# Altium schematic symbol library Cap_Panasonic_10TPE220ML_eec.SchLib: 1 symbol
Pins are listed as number, name and electrical type; pins without a type are passive.

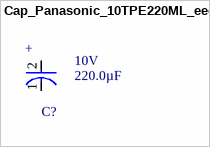
[diagram p0: symbol Cap_Panasonic_10TPE220ML_eec]

## Cap_Panasonic_10TPE220ML_eec
designator C?  Capacitance: 220.0µF  Voltage: 10V
CAP TANT POLY 220UF 10V 2917; Part Number: 10TPE220ML; Manufacturer: Panasonic; Value: 220.0µF; helpURL: https://upverter.com/upn/revision/a9d837e84b766fb4/; ComponentLink2Description: Datasheet; Temperature: -55°C to +105°C; Package: 2917; Supplier 2: Mouser; Price: 1.27880192454; Supplier 1: Digi-Key; ComponentLink1URL: https://upverter.com/upn/revision/a9d837e84b766fb4/; Supplier Part Number 2: 667-10TPE220ML; Supplier Part Number 1: P16451CT-ND; ComponentLink1Description: Upverter; ComponentLink2URL: https://industrial.panasonic.com/cdbs/www-data/pdf/AAA8000/AAA8000C36.pdf; RoHS: TRUE; Mouser Part Number: 667-10TPE220ML; Temperature Range High: +105°C; Digikey Description: CAP TANT POLY 220UF 10V 2917; Recommended land pattern: https://industrial.panasonic.com/cdbs/www-data/pdf/AAA8000/AAA8000COL85.pdf; Digikey Part Number: P16451CT-ND; Lead Free: yes; Temperature Range Low: -55°C
footprint Panasonic_10TPE220ML_0
pins: 1 -, 2 +